# EAGLE library part CS5171 (library tmxk)
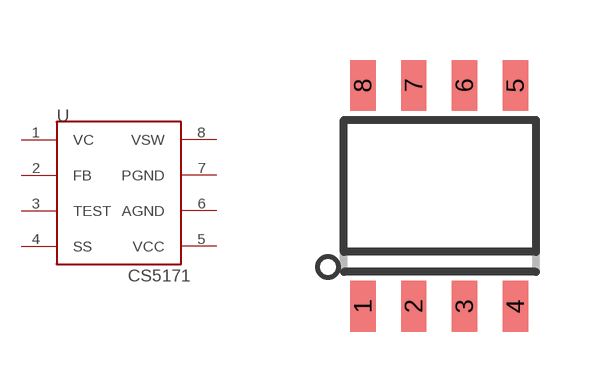
[diagram p25: symbol with the pads of SOP8; footprint SOP8]

Designator prefix U

## CS5171  [SOP8]
1  VC
2  FB
3  TEST
4  SS
5  VCC
6  AGND
7  PGND
8  VSW

## Footprint SOP8 (pad centres in mm)
Small Outline Package 8 NS Package M08A
smd 0.635 x 1.27: 1 -1.925,-2.76; 2 -0.655,-2.76; 3 0.615,-2.76; 4 1.885,-2.76; 5 1.885,2.76; 6 0.615,2.76; 7 -0.655,2.76; 8 -1.925,2.76